# Altium schematic symbol library testpoint_lib.SchLib: 1 symbol
Pins are listed as number, name and electrical type; pins without a type are passive.

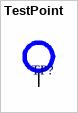
[diagram p0: symbol TestPoint]

## TestPoint
designator TP?  (value not drawn)
footprint TestPoint
pins: TP? TP